# EAGLE library part TRAFO20X20MM2P2S (library hotmetal)
TRANSFORMER 2 primary windings, 2 secondary windings Based on the EI30-2 device in trafo.lbr but with two primary windings. This means in the USA a 2x115 primary winding tansformer can be used in parallel. In the UK we use a single primary winding. The pinouts are compatible.
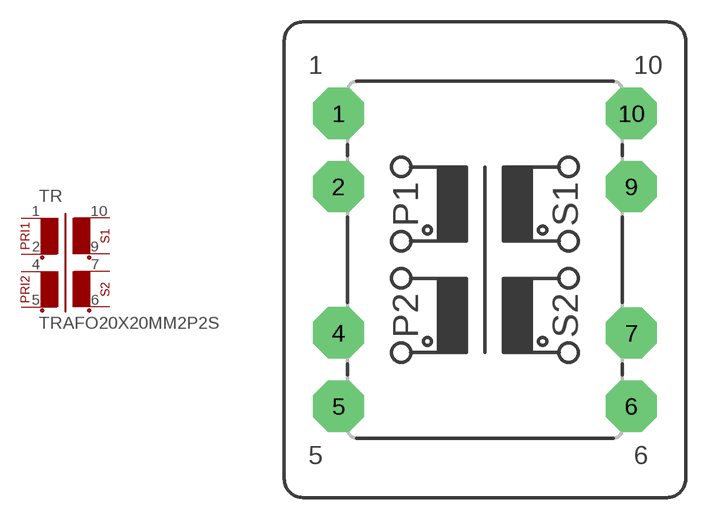
[diagram p4: symbol with the pads of T2P2S; footprint T2P2S]

Designator prefix TR

## TRAFO20X20MM2P2S  [T2P2S]
1  1  pas
2  2  pas
4  4  pas
5  5  pas
6  6  pas
7  7  pas
9  9  pas
10  10  pas

## Footprint T2P2S (pad centres in mm)
TRANSFORMER 2 primary windings, 2 secondary windings If the primaries are wired in parallel, you can use USA 2x115V or UK 1x230V.
drill 1.118 pad 3.5 octagon: 1 -10.008,10.008; 2 -10.008,5.008; 4 -10.008,-4.992; 5 -10.008,-10.008; 6 10.008,-10.008; 7 10.008,-5.004; 9 10.008,5.004; 10 10.008,10.008